# EAGLE library part TJA1041A (library lib_stankus)
NXP TJA1041A CAN PHY
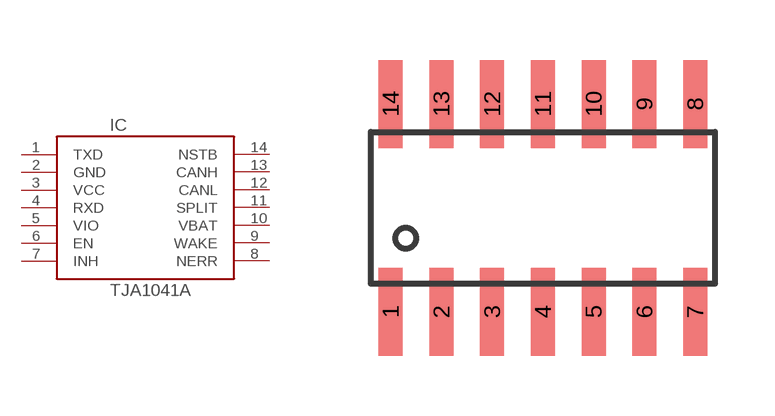
[diagram p41: symbol with the pads of SO14; footprint SO14]

Designator prefix IC

## TJA1041A-SO14  [SO14]
1  TXD  pas
2  GND  pas
3  VCC  pas
4  RXD  pas
5  VIO  pas
6  EN  pas
7  INH  pas
8  NERR  pas
9  WAKE  pas
10  VBAT  pas
11  SPLIT  pas
12  CANL  pas
13  CANH  pas
14  NSTB  pas

## Footprint SO14 (pad centres in mm)
SO14
smd 0.6 x 2.2: 1 -3.81,-2.6; 2 -2.54,-2.6; 3 -1.27,-2.6; 4 0,-2.6; 5 1.27,-2.6; 6 2.54,-2.6; 7 3.81,-2.6; 8 3.81,2.6; 9 2.54,2.6; 10 1.27,2.6; 11 0,2.6; 12 -1.27,2.6; 13 -2.54,2.6; 14 -3.81,2.6